# EAGLE library part HEADER-12POS (library quadparts_prebuilt_2022)
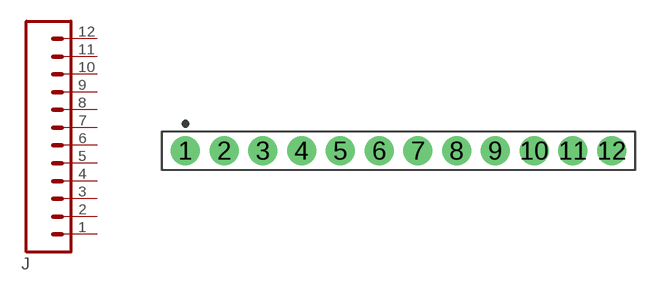
[diagram p7: symbol with the pads of HDRVR12W75P254_1X12_3098X254X850B; footprint HDRVR12W75P254_1X12_3098X254X850B]

Designator prefix J

## HEADER-12POS-0.1IN-FEMALE-TH (CREATOR: Swanson; DESC: CONN HDR 12POS 0.1 TIN PCB; DIST: DIGIKEY; DISTPN: S6100-ND; MFR: Sullins Connector Solutions; MOUNTING: TH; MPN: PPTC121LFBN-RC)  [HDRVR12W75P254_1X12_3098X254X850B]
1  1
2  2
3  3
4  4
5  5
6  6
7  7
8  8
9  9
10  10
11  11
12  12

## Footprint HDRVR12W75P254_1X12_3098X254X850B (pad centres in mm)
Single-row, 12-pin Receptacle Header (Female) Straight, 2.54 mm (0.10 in) col pitch, 8.50 mm insulator length, 30.98 X 2.54 X 8.50 mm body Single-row (1X12), 12-pin Receptacle Header (Female) Straight package with 2.54 mm (0.10 in) col pitch, 0.75 mm lead width, 3.20 mm tail length and 8.50 mm insulator length with overall size 30.98 X 2.54 X 8.50 mm, pin pattern - clockwise from top left
drill 1.261 pad 1.891: 1 0,0; 2 2.54,0; 3 5.08,0; 4 7.62,0; 5 10.16,0; 6 12.7,0; 7 15.24,0; 8 17.78,0; 9 20.32,0; 10 22.86,0; 11 25.4,0; 12 27.94,0